# Altium schematic symbol library 2020-01-21_20-47-02.SchLib: 2 symbols
Pins are listed as number, name and electrical type; pins without a type are passive.

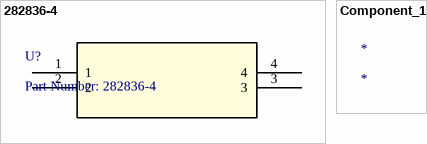
[diagram p0: symbols 282836-4 to Component_1]

## 282836-4
designator U?, comment Part Number: 282836-4
No Description Available; Vendor: TE Connectivity; Built_By: EMA_UL_Team; Manufacturer_Part_Number: 282836-4; Copyright: Copyright (C) 2018 Accelerated Designs. All rights reserved; RefDes: RefDes; Type: DEV; Value: Value
footprint 282836-4
pins: 1, 2, 3, 4

## Component_1
designator *